# Altium schematic symbol library Power_DCDC_StepDown_Controllers_GOST.SchLib: 1 symbol
Pins are listed as number, name and electrical type; pins without a type are passive.

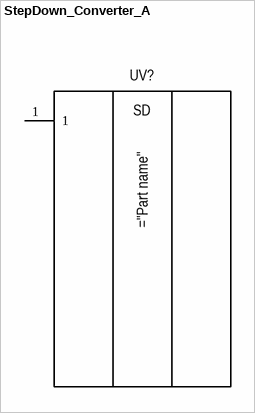
[diagram p0: symbol StepDown_Converter_A]

## StepDown_Converter_A
designator UV?
pins: 1
text: SD